# Altium integrated library Maxim Interface 1-Wire.IntLib: 5 symbols
Pins are listed as number, name and electrical type; pins without a type are passive.

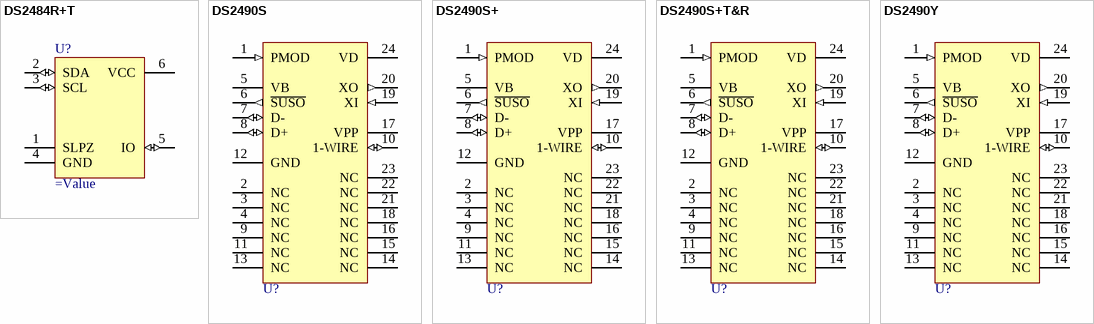
[diagram p0: symbols DS2484R+T to DS2490Y]

## DS2484R+T
designator U?
I/O Controller Interface IC SINGLE-CHN 1-W DR W LVL SHFT SOT23; Manufacturer: Maxim; Manufacturer Part Number: DS2484R+T; Interface: I2C; Max Power Dissipation: 695.7mW; Nominal Supply Current: 300uA; Min Supply Voltage: 1.71V; Max Supply Voltage: 5.25V; Supplier 1: Digi-Key; Stock 1: 8230; Pricing 1: 1=1.49, 10=1.403, 25=1.122, 50=1.066, 100=0.9818, 250=0.93128, 500=0.8976 (USD); Mount: Surface Mount; Case/Package: SOT-23-6; Number of Pins: 6; Contact Plating: Gold; Min Operating Temperature: -40°C; Max Operating Temperature: 85°C; Packaging: Tape and Reel; Package Quantity: 2500; Operating Supply Current: 300uA; Radiation Hardening: No; REACH SVHC: Unknown; ComponentLink1URL: http://datasheets.maximintegrated.com/en/ds/DS2484.pdf; ComponentLink1Description: http://datasheets.maximintegrated.com/en/ds/DS2484.pdf; Supplier Part Number 1: DS2484R+TCT-ND
footprint SOT95P280X145-6N (SOT23, 6-Leads, Body 2,90x2,80mm, Pitch 0,95mm, IPC Medium Density)
pins: 1 SLPZ, 2 SDA (io), 3 SCL (io), 4 GND (power), 5 IO (io), 6 VCC (power)

## DS2490S
designator U?
12 Mbps USB to Regular and Overdrive 1-Wire; Published: 21-Sep-2007; DatasheetVersion: Dec-2006; PackageVersion: 1994; PackageReference: SOIC24W; Publisher: Altium Limited; PackageDescription: 24-Pin Small Outline Integrated Circuit, 0.3" Wide, 1.27 mm Pitch; Code_IPC: SOIC127P1047-24; ComponentLink1Description: Manufacturer Link; ComponentLink1URL: http://www.maxim-ic.com/; ComponentLink2Description: Datasheet; ComponentLink2URL: http://www.maxim-ic.com/quick_view2.cfm/qv_pk/2995
footprint SOIC24W_N (SOIC, 24-Leads, Body 15.4x7.5mm, Pitch 1.27mm, IPC Medium Density)
footprint SOIC24W_L (SOIC, 24-Leads, Body 15.4x7.5mm, Pitch 1.27mm, IPC High Density)
footprint SOIC24W_M (SOIC, 24-Leads, Body 15.4x7.5mm, Pitch 1.27mm, IPC Low Density)
3D model WSO24 (24-Pin Small Outline Integrated Circuit, 0.3" Wide, 1.27 mm Pitch)
pins: 1 PMOD (in), 2 NC, 3 NC, 4 NC, 5 VB (power), 6 ~{SUSO} (out), 7 D- (io), 8 D+ (io), 9 NC, 10 1-WIRE (io), 11 NC, 12 GND (power), 13 NC, 14 NC, 15 NC, 16 NC, 17 VPP (power), 18 NC, 19 XI (in), 20 XO (out), 21 NC, 22 NC, 23 NC, 24 VD (power)

## DS2490S+
designator U?
12 Mbps USB to Regular and Overdrive 1-Wire; Published: 21-Sep-2007; DatasheetVersion: Dec-2006; PackageVersion: 1994; PackageReference: SOIC24W; Publisher: Altium Limited; PackageDescription: 24-Pin Small Outline Integrated Circuit, 0.3" Wide, 1.27 mm Pitch; Code_IPC: SOIC127P1047-24; ComponentLink1Description: Manufacturer Link; ComponentLink1URL: http://www.maxim-ic.com/; ComponentLink2Description: Datasheet; ComponentLink2URL: http://www.maxim-ic.com/quick_view2.cfm/qv_pk/2995
footprint SOIC24W_N (SOIC, 24-Leads, Body 15.4x7.5mm, Pitch 1.27mm, IPC Medium Density)
footprint SOIC24W_L (SOIC, 24-Leads, Body 15.4x7.5mm, Pitch 1.27mm, IPC High Density)
footprint SOIC24W_M (SOIC, 24-Leads, Body 15.4x7.5mm, Pitch 1.27mm, IPC Low Density)
3D model WSO24 (24-Pin Small Outline Integrated Circuit, 0.3" Wide, 1.27 mm Pitch)
pins: 1 PMOD (in), 2 NC, 3 NC, 4 NC, 5 VB (power), 6 ~{SUSO} (out), 7 D- (io), 8 D+ (io), 9 NC, 10 1-WIRE (io), 11 NC, 12 GND (power), 13 NC, 14 NC, 15 NC, 16 NC, 17 VPP (power), 18 NC, 19 XI (in), 20 XO (out), 21 NC, 22 NC, 23 NC, 24 VD (power)

## DS2490S+T&R
designator U?
12 Mbps USB to Regular and Overdrive 1-Wire; Published: 21-Sep-2007; DatasheetVersion: Dec-2006; PackageVersion: 1994; PackageReference: SOIC24W; Publisher: Altium Limited; PackageDescription: 24-Pin Small Outline Integrated Circuit, 0.3" Wide, 1.27 mm Pitch; Code_IPC: SOIC127P1047-24; ComponentLink1Description: Manufacturer Link; ComponentLink1URL: http://www.maxim-ic.com/; ComponentLink2Description: Datasheet; ComponentLink2URL: http://www.maxim-ic.com/quick_view2.cfm/qv_pk/2995
footprint SOIC24W_N (SOIC, 24-Leads, Body 15.4x7.5mm, Pitch 1.27mm, IPC Medium Density)
footprint SOIC24W_L (SOIC, 24-Leads, Body 15.4x7.5mm, Pitch 1.27mm, IPC High Density)
footprint SOIC24W_M (SOIC, 24-Leads, Body 15.4x7.5mm, Pitch 1.27mm, IPC Low Density)
3D model WSO24 (24-Pin Small Outline Integrated Circuit, 0.3" Wide, 1.27 mm Pitch)
pins: 1 PMOD (in), 2 NC, 3 NC, 4 NC, 5 VB (power), 6 ~{SUSO} (out), 7 D- (io), 8 D+ (io), 9 NC, 10 1-WIRE (io), 11 NC, 12 GND (power), 13 NC, 14 NC, 15 NC, 16 NC, 17 VPP (power), 18 NC, 19 XI (in), 20 XO (out), 21 NC, 22 NC, 23 NC, 24 VD (power)

## DS2490Y
designator U?
12 Mbps USB to Regular and Overdrive 1-Wire; Published: 21-Sep-2007; DatasheetVersion: Dec-2006; PackageVersion: 1994; PackageReference: SOIC24W; Publisher: Altium Limited; PackageDescription: 24-Pin Small Outline Integrated Circuit, 0.3" Wide, 1.27 mm Pitch; Code_IPC: SOIC127P1047-24; ComponentLink1Description: Manufacturer Link; ComponentLink1URL: http://www.maxim-ic.com/; ComponentLink2Description: Datasheet; ComponentLink2URL: http://www.maxim-ic.com/quick_view2.cfm/qv_pk/2995
footprint SOIC24W_N (SOIC, 24-Leads, Body 15.4x7.5mm, Pitch 1.27mm, IPC Medium Density)
footprint SOIC24W_L (SOIC, 24-Leads, Body 15.4x7.5mm, Pitch 1.27mm, IPC High Density)
footprint SOIC24W_M (SOIC, 24-Leads, Body 15.4x7.5mm, Pitch 1.27mm, IPC Low Density)
3D model WSO24 (24-Pin Small Outline Integrated Circuit, 0.3" Wide, 1.27 mm Pitch)
pins: 1 PMOD (in), 2 NC, 3 NC, 4 NC, 5 VB (power), 6 ~{SUSO} (out), 7 D- (io), 8 D+ (io), 9 NC, 10 1-WIRE (io), 11 NC, 12 GND (power), 13 NC, 14 NC, 15 NC, 16 NC, 17 VPP (power), 18 NC, 19 XI (in), 20 XO (out), 21 NC, 22 NC, 23 NC, 24 VD (power)